# Altium schematic symbol library IR2110STRPBF.SchLib: 1 symbol
Pins are listed as number, name and electrical type; pins without a type are passive.

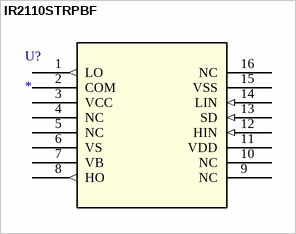
[diagram p0: symbol IR2110STRPBF]

## IR2110STRPBF
designator U?
No Description Available; Mfr_Name: Infineon; RefDes: RefDes; Type: Type
footprint SOIC16_INF (Footprint not found)
pins: 1 LO (out), 2 COM, 3 VCC (power), 4 NC, 5 NC, 6 VS (power), 7 VB (power), 8 HO (out), 9 NC, 10 NC, 11 VDD (power), 12 HIN (in), 13 SD (in), 14 LIN (in), 15 VSS (power), 16 NC